# Altium integrated library Linear Technology Power Management Switching Regulator LT1074-LT8705.IntLib: 2252 symbols (part 78 of 148)
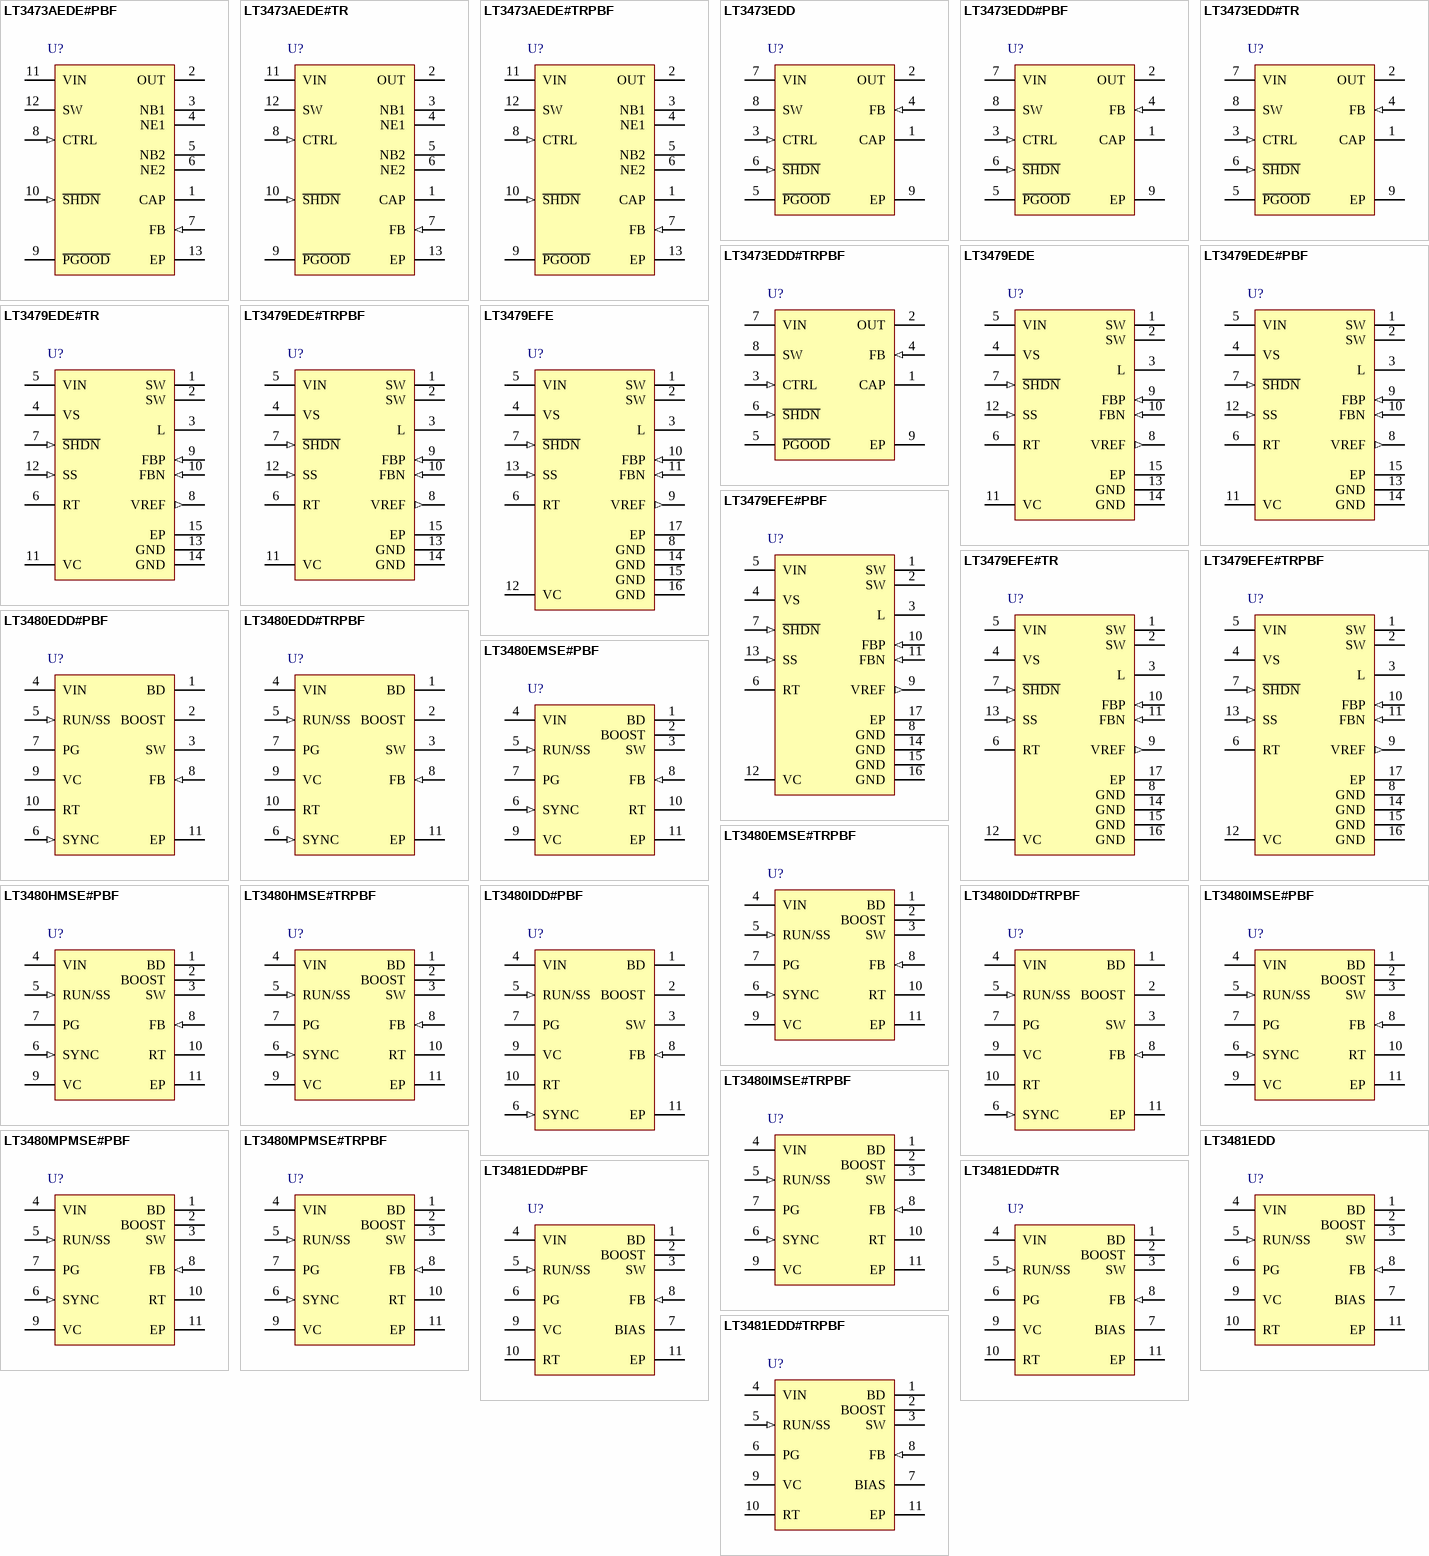
[diagram p148: symbols LT3473AEDE#PBF to LT3481EDD#TRPBF]

## LT3473EDD#TR
designator U?
Micropower 1 A Boost Converter with Schottky and Output Disconnect Max, 8-pin SON (DD-8), -40 to 85 degC, Tape and Reel; Manufacturer: Linear Technology; PartNumber: LT3473EDD#TR; Number of Outputs: 1; PackageVersion: Jun-10; PackageReference: DD-8; PackageDescription: 8-Pin Plastic DFN, Body 3 x 3 mm, Pitch 0.5 mm; Packing: Tape and Reel; RoHS: FALSE; Mounting Technology: Surface Mount; Code_JEDEC: MO-229; ComponentLink1Description: Manufacturer URL; ComponentLink1URL: http://www.linear.com/; ComponentLink2Description: Datasheet; ComponentLink2URL: http://cds.linear.com/docs/en/datasheet/3473f.pdf; ComponentLink3Description: Package Specification; ComponentLink3URL: http://cds.linear.com/docs/en/packaging/DFN_8_05-08-1698.pdf
footprint LT-DD-8_V (SON, 8-Leads, Body 3x3mm, Pitch 0.5mm, Thermal Pad 1.65x2.38 mm)
pins: 1 CAP "Internal Output Voltage. This pin is the Schottky cathode and disconnect PNP emitter. Connect output capacitor here.", 2 OUT (power) "Output of Disconnect Circuit. Bypass this pin with capacitor to ground.", 3 CTRL (in) "External Reference Pin. This pin sets the FB voltage externally between 0V and 1.25V. Tie this pin 1.5V or higher to use the internal 1.25V reference.", 4 FB (in) "Feedback Pin. Pin voltage is regulated to 1.25V if internal reference is used or to the CTRL pin voltage if the CTRL pin voltage is between 0V and 1.25V. Connect the feedback resistor divider to this pin.", 5 ~{PGOOD} (oc) "Power Good Output. Open collector logic output that starts to sink current when FB reaches within 100mV of the reference voltage.", 6 ~{SHDN} (in) "Shutdown Pin. Connect to 1.4V or higher to enable device; 0.2V or less to disable device. Also functions as soft-start. Use RC filter as shown in Figure 4.", 7 VIN (power) "Input Supply Pin. Must be locally bypassed with a X5R or X7R type ceramic capacitor.", 8 SW "Switch Pin. Connect inductor here. Minimize the metal trace area connected to the pin to minimize EMI.", 9 EP (power) "Ground. Solder directly to PCB ground plane through multiple vias under the package for optimum thermal performance."

## LT3473EDD#TRPBF
designator U?
Micropower 1 A Boost Converter with Schottky and Output Disconnect Max, 8-pin SON (DD-8), -40 to 85 degC, Pb-Free, Tape and Reel; Manufacturer: Linear Technology; PartNumber: LT3473EDD#TRPBF; Number of Outputs: 1; PackageVersion: Jun-10; PackageReference: DD-8; PackageDescription: 8-Pin Plastic DFN, Body 3 x 3 mm, Pitch 0.5 mm; Supplier 1: Digi-Key; Supplier Part Number 1: LT3473EDD#TRPBF-ND; Supplier 2: Newark; Supplier Part Number 2: 57M8284; Packing: Tape and Reel; RoHS: TRUE; Mounting Technology: Surface Mount; Code_JEDEC: MO-229; ComponentLink1Description: Manufacturer URL; ComponentLink1URL: http://www.linear.com/; ComponentLink2Description: Datasheet; ComponentLink2URL: http://cds.linear.com/docs/en/datasheet/3473f.pdf; ComponentLink3Description: Package Specification; ComponentLink3URL: http://cds.linear.com/docs/en/packaging/DFN_8_05-08-1698.pdf
footprint LT-DD-8_V (SON, 8-Leads, Body 3x3mm, Pitch 0.5mm, Thermal Pad 1.65x2.38 mm)
pins: 1 CAP "Internal Output Voltage. This pin is the Schottky cathode and disconnect PNP emitter. Connect output capacitor here.", 2 OUT (power) "Output of Disconnect Circuit. Bypass this pin with capacitor to ground.", 3 CTRL (in) "External Reference Pin. This pin sets the FB voltage externally between 0V and 1.25V. Tie this pin 1.5V or higher to use the internal 1.25V reference.", 4 FB (in) "Feedback Pin. Pin voltage is regulated to 1.25V if internal reference is used or to the CTRL pin voltage if the CTRL pin voltage is between 0V and 1.25V. Connect the feedback resistor divider to this pin.", 5 ~{PGOOD} (oc) "Power Good Output. Open collector logic output that starts to sink current when FB reaches within 100mV of the reference voltage.", 6 ~{SHDN} (in) "Shutdown Pin. Connect to 1.4V or higher to enable device; 0.2V or less to disable device. Also functions as soft-start. Use RC filter as shown in Figure 4.", 7 VIN (power) "Input Supply Pin. Must be locally bypassed with a X5R or X7R type ceramic capacitor.", 8 SW "Switch Pin. Connect inductor here. Minimize the metal trace area connected to the pin to minimize EMI.", 9 EP (power) "Ground. Solder directly to PCB ground plane through multiple vias under the package for optimum thermal performance."

## LT3479EDE
designator U?
3 A, Full Featured DC/DC Converter with Soft-Start and Inrush Current Protection, 14-pin SON (DE-14), -40 to 85 degC; Manufacturer: Linear Technology; PartNumber: LT3479EDE; Number of Outputs: 1; DatasheetVersion: Rev. C; PackageVersion: Rev. B, 06/2010; PackageReference: DE-14; PackageDescription: 14-Pin Plastic DFN, Body 4 x 3 mm, Pitch 0.5 mm; Supplier 1: Newark; Supplier Part Number 1: 57M8333; RoHS: FALSE; Mounting Technology: Surface Mount; Code_JEDEC: MO-229; ComponentLink1Description: Manufacturer URL; ComponentLink1URL: http://www.linear.com/; ComponentLink2Description: Datasheet; ComponentLink2URL: http://cds.linear.com/docs/en/datasheet/3479fc.pdf; ComponentLink3Description: Package Specification; ComponentLink3URL: http://www.linear.com/docs/en/packaging/DFN_14_05-08-1708.pdf
footprint LT-DE-14_V (SON, 14-Leads, Body 4x3mm, Pitch 0.5mm, Thermal Pad 3.3x1.7mm)
pins: 1 SW (power) "Switch Pins. Collector of the internal NPN power switch. Connect the inductor and diode here and minimize the metal trace area connected to this pin to minimize electromagnetic interference.", 2 SW (power) "Switch Pins. Collector of the internal NPN power switch. Connect the inductor and diode here and minimize the metal trace area connected to this pin to minimize electromagnetic interference.", 3 L (power) "Inductor Pin. Connect the inductor to this pin.", 4 VS (power) "Inductor Supply. Must be locally bypassed. Powers the switch and the inductor. In case only one supply voltage is available, tie VIN and VS together.", 5 VIN (power) "Input Supply. Must be locally bypassed. Powers the internal control circuitry.", 6 RT "Timing Resistor Pin. Adjusts the switching frequency. Do not leave this pin open. See Table 4 for RT values and switching frequencies.", 7 ~{SHDN} (in) "Shutdown. Tie to 1.5V or greater to enable the device. Tie below 0.3V to turn off the device.", 8 VREF (out) "Bandgap Voltage Reference. Internally set to 1.235V. Connect this pin to FBP if generating a positive output, or to an external resistor divider if generating a negative voltage. This pin can provide up to 100uA of current (See Datasheet)", 9 FBP (in) "The Noninverting Input to the Error Amplifier. Connect resistive divider tap here for negative output voltage.", 10 FBN (in) "The Inverting Input to the Error Amplifier. Connect resistive divider tap here for positive output voltage.", 11 VC "Compensation Pin for Error Amplifier. Connect a series RC from this pin to GND. Typical values are 10kohm and 2.2nF.", 12 SS (in) "Soft-Start. Place a soft-start capacitor here. Leave floating if not in use.", 13 GND (power) "Ground. Tie directly to local ground plane.", 14 GND (power) "Ground. Tie directly to local ground plane.", 15 EP (power) "Power Ground. Must be connected to electrical PCB ground."

## LT3479EDE#PBF
designator U?
3 A, Full Featured DC/DC Converter with Soft-Start and Inrush Current Protection, 14-pin SON (DE-14), -40 to 85 degC, Pb-Free; Manufacturer: Linear Technology; PartNumber: LT3479EDE#PBF; Number of Outputs: 1; DatasheetVersion: Rev. C; PackageVersion: Rev. B, 06/2010; PackageReference: DE-14; PackageDescription: 14-Pin Plastic DFN, Body 4 x 3 mm, Pitch 0.5 mm; Supplier 1: Digi-Key; Supplier Part Number 1: LT3479EDE#PBF-ND; Supplier 2: Farnell; Supplier Part Number 2: 2294908; Supplier 3: Newark; Supplier Part Number 3: 57M8334; RoHS: TRUE; Mounting Technology: Surface Mount; Code_JEDEC: MO-229; ComponentLink1Description: Manufacturer URL; ComponentLink1URL: http://www.linear.com/; ComponentLink2Description: Datasheet; ComponentLink2URL: http://cds.linear.com/docs/en/datasheet/3479fc.pdf; ComponentLink3Description: Package Specification; ComponentLink3URL: http://www.linear.com/docs/en/packaging/DFN_14_05-08-1708.pdf
footprint LT-DE-14_V (SON, 14-Leads, Body 4x3mm, Pitch 0.5mm, Thermal Pad 3.3x1.7mm)
pins: 1 SW (power) "Switch Pins. Collector of the internal NPN power switch. Connect the inductor and diode here and minimize the metal trace area connected to this pin to minimize electromagnetic interference.", 2 SW (power) "Switch Pins. Collector of the internal NPN power switch. Connect the inductor and diode here and minimize the metal trace area connected to this pin to minimize electromagnetic interference.", 3 L (power) "Inductor Pin. Connect the inductor to this pin.", 4 VS (power) "Inductor Supply. Must be locally bypassed. Powers the switch and the inductor. In case only one supply voltage is available, tie VIN and VS together.", 5 VIN (power) "Input Supply. Must be locally bypassed. Powers the internal control circuitry.", 6 RT "Timing Resistor Pin. Adjusts the switching frequency. Do not leave this pin open. See Table 4 for RT values and switching frequencies.", 7 ~{SHDN} (in) "Shutdown. Tie to 1.5V or greater to enable the device. Tie below 0.3V to turn off the device.", 8 VREF (out) "Bandgap Voltage Reference. Internally set to 1.235V. Connect this pin to FBP if generating a positive output, or to an external resistor divider if generating a negative voltage. This pin can provide up to 100uA of current (See Datasheet)", 9 FBP (in) "The Noninverting Input to the Error Amplifier. Connect resistive divider tap here for negative output voltage.", 10 FBN (in) "The Inverting Input to the Error Amplifier. Connect resistive divider tap here for positive output voltage.", 11 VC "Compensation Pin for Error Amplifier. Connect a series RC from this pin to GND. Typical values are 10kohm and 2.2nF.", 12 SS (in) "Soft-Start. Place a soft-start capacitor here. Leave floating if not in use.", 13 GND (power) "Ground. Tie directly to local ground plane.", 14 GND (power) "Ground. Tie directly to local ground plane.", 15 EP (power) "Power Ground. Must be connected to electrical PCB ground."

## LT3479EDE#TR
designator U?
3 A, Full Featured DC/DC Converter with Soft-Start and Inrush Current Protection, 14-pin SON (DE-14), -40 to 85 degC, Tape and Reel; Manufacturer: Linear Technology; PartNumber: LT3479EDE#TR; Number of Outputs: 1; DatasheetVersion: Rev. C; PackageVersion: Rev. B, 06/2010; PackageReference: DE-14; PackageDescription: 14-Pin Plastic DFN, Body 4 x 3 mm, Pitch 0.5 mm; Packing: Tape and Reel; RoHS: FALSE; Mounting Technology: Surface Mount; Code_JEDEC: MO-229; ComponentLink1Description: Manufacturer URL; ComponentLink1URL: http://www.linear.com/; ComponentLink2Description: Datasheet; ComponentLink2URL: http://cds.linear.com/docs/en/datasheet/3479fc.pdf; ComponentLink3Description: Package Specification; ComponentLink3URL: http://www.linear.com/docs/en/packaging/DFN_14_05-08-1708.pdf
footprint LT-DE-14_V (SON, 14-Leads, Body 4x3mm, Pitch 0.5mm, Thermal Pad 3.3x1.7mm)
pins: 1 SW (power) "Switch Pins. Collector of the internal NPN power switch. Connect the inductor and diode here and minimize the metal trace area connected to this pin to minimize electromagnetic interference.", 2 SW (power) "Switch Pins. Collector of the internal NPN power switch. Connect the inductor and diode here and minimize the metal trace area connected to this pin to minimize electromagnetic interference.", 3 L (power) "Inductor Pin. Connect the inductor to this pin.", 4 VS (power) "Inductor Supply. Must be locally bypassed. Powers the switch and the inductor. In case only one supply voltage is available, tie VIN and VS together.", 5 VIN (power) "Input Supply. Must be locally bypassed. Powers the internal control circuitry.", 6 RT "Timing Resistor Pin. Adjusts the switching frequency. Do not leave this pin open. See Table 4 for RT values and switching frequencies.", 7 ~{SHDN} (in) "Shutdown. Tie to 1.5V or greater to enable the device. Tie below 0.3V to turn off the device.", 8 VREF (out) "Bandgap Voltage Reference. Internally set to 1.235V. Connect this pin to FBP if generating a positive output, or to an external resistor divider if generating a negative voltage. This pin can provide up to 100uA of current (See Datasheet)", 9 FBP (in) "The Noninverting Input to the Error Amplifier. Connect resistive divider tap here for negative output voltage.", 10 FBN (in) "The Inverting Input to the Error Amplifier. Connect resistive divider tap here for positive output voltage.", 11 VC "Compensation Pin for Error Amplifier. Connect a series RC from this pin to GND. Typical values are 10kohm and 2.2nF.", 12 SS (in) "Soft-Start. Place a soft-start capacitor here. Leave floating if not in use.", 13 GND (power) "Ground. Tie directly to local ground plane.", 14 GND (power) "Ground. Tie directly to local ground plane.", 15 EP (power) "Power Ground. Must be connected to electrical PCB ground."

## LT3479EDE#TRPBF
designator U?
3 A, Full Featured DC/DC Converter with Soft-Start and Inrush Current Protection, 14-pin SON (DE-14), -40 to 85 degC, Pb-Free, Tape and Reel; Manufacturer: Linear Technology; PartNumber: LT3479EDE#TRPBF; Number of Outputs: 1; DatasheetVersion: Rev. C; PackageVersion: Rev. B, 06/2010; PackageReference: DE-14; PackageDescription: 14-Pin Plastic DFN, Body 4 x 3 mm, Pitch 0.5 mm; Supplier 1: Digi-Key; Supplier Part Number 1: LT3479EDE#TRPBF-ND; Supplier 2: Newark; Supplier Part Number 2: 57M8336; Packing: Tape and Reel; RoHS: TRUE; Mounting Technology: Surface Mount; Code_JEDEC: MO-229; ComponentLink1Description: Manufacturer URL; ComponentLink1URL: http://www.linear.com/; ComponentLink2Description: Datasheet; ComponentLink2URL: http://cds.linear.com/docs/en/datasheet/3479fc.pdf; ComponentLink3Description: Package Specification; ComponentLink3URL: http://www.linear.com/docs/en/packaging/DFN_14_05-08-1708.pdf
footprint LT-DE-14_V (SON, 14-Leads, Body 4x3mm, Pitch 0.5mm, Thermal Pad 3.3x1.7mm)
pins: 1 SW (power) "Switch Pins. Collector of the internal NPN power switch. Connect the inductor and diode here and minimize the metal trace area connected to this pin to minimize electromagnetic interference.", 2 SW (power) "Switch Pins. Collector of the internal NPN power switch. Connect the inductor and diode here and minimize the metal trace area connected to this pin to minimize electromagnetic interference.", 3 L (power) "Inductor Pin. Connect the inductor to this pin.", 4 VS (power) "Inductor Supply. Must be locally bypassed. Powers the switch and the inductor. In case only one supply voltage is available, tie VIN and VS together.", 5 VIN (power) "Input Supply. Must be locally bypassed. Powers the internal control circuitry.", 6 RT "Timing Resistor Pin. Adjusts the switching frequency. Do not leave this pin open. See Table 4 for RT values and switching frequencies.", 7 ~{SHDN} (in) "Shutdown. Tie to 1.5V or greater to enable the device. Tie below 0.3V to turn off the device.", 8 VREF (out) "Bandgap Voltage Reference. Internally set to 1.235V. Connect this pin to FBP if generating a positive output, or to an external resistor divider if generating a negative voltage. This pin can provide up to 100uA of current (See Datasheet)", 9 FBP (in) "The Noninverting Input to the Error Amplifier. Connect resistive divider tap here for negative output voltage.", 10 FBN (in) "The Inverting Input to the Error Amplifier. Connect resistive divider tap here for positive output voltage.", 11 VC "Compensation Pin for Error Amplifier. Connect a series RC from this pin to GND. Typical values are 10kohm and 2.2nF.", 12 SS (in) "Soft-Start. Place a soft-start capacitor here. Leave floating if not in use.", 13 GND (power) "Ground. Tie directly to local ground plane.", 14 GND (power) "Ground. Tie directly to local ground plane.", 15 EP (power) "Power Ground. Must be connected to electrical PCB ground."

## LT3479EFE
designator U?
3 A, Full Featured DC/DC Converter with Soft-Start and Inrush Current Protection, 16-pin SOP (FE-16-EPV-BC), -40 to 85 degC; Manufacturer: Linear Technology; PartNumber: LT3479EFE; Number of Outputs: 1; DatasheetVersion: Rev. C; PackageVersion: Rev. J, 11/2012; PackageReference: FE-16; PackageDescription: 16-Pin Plastic TSSOP, Body 5 x 4.4 mm, Pitch 0.65 mm; Supplier 1: Newark; Supplier Part Number 1: 57M8337; RoHS: FALSE; Mounting Technology: Surface Mount; ComponentLink1Description: Manufacturer URL; ComponentLink1URL: http://www.linear.com/; ComponentLink2Description: Datasheet; ComponentLink2URL: http://cds.linear.com/docs/en/datasheet/3479fc.pdf; ComponentLink3Description: Package Specification; ComponentLink3URL: http://cds.linear.com/docs/en/packaging/05081663__J_FE16(BC).pdf
footprint LT-FE-16-EPV-BC_N (SOP, 16-Leads, Body 5.1x4.5mm, Pitch 0.65mm, Thermal Pad 3.58x2.94mm, IPC Medium Density)
footprint LT-FE-16-EPV-BC_L (SOP, 16-Leads, Body 5.1x4.5mm, Pitch 0.65mm, Thermal Pad 3.58x2.94mm, IPC High Density)
footprint LT-FE-16-EPV-BC_M (SOP, 16-Leads, Body 5.1x4.5mm, Pitch 0.65mm, Thermal Pad 3.58x2.94mm, IPC Low Density)
pins: 1 SW (power) "Switch Pins. Collector of the internal NPN power switch. Connect the inductor and diode here and minimize the metal trace area connected to this pin to minimize electromagnetic interference.", 2 SW (power) "Switch Pins. Collector of the internal NPN power switch. Connect the inductor and diode here and minimize the metal trace area connected to this pin to minimize electromagnetic interference.", 3 L (power) "Inductor Pin. Connect the inductor to this pin.", 4 VS (power) "Inductor Supply. Must be locally bypassed. Powers the switch and the inductor. In case only one supply voltage is available, tie VIN and VS together.", 5 VIN (power) "Input Supply. Must be locally bypassed. Powers the internal control circuitry.", 6 RT "Timing Resistor Pin. Adjusts the switching frequency. Do not leave this pin open. See Table 4 for RT values and switching frequencies.", 7 ~{SHDN} (in) "Shutdown. Tie to 1.5V or greater to enable the device. Tie below 0.3V to turn off the device.", 8 GND (power) "Ground. Tie directly to local ground plane.", 9 VREF (out) "Bandgap Voltage Reference. Internally set to 1.235V. Connect this pin to FBP if generating a positive output, or to an external resistor divider if generating a negative voltage. This pin can provide up to 100uA of current (See Datasheet)", 10 FBP (in) "The Noninverting Input to the Error Amplifier. Connect resistive divider tap here for negative output voltage.", 11 FBN (in) "The Inverting Input to the Error Amplifier. Connect resistive divider tap here for positive output voltage.", 12 VC "Compensation Pin for Error Amplifier. Connect a series RC from this pin to GND. Typical values are 10kohm and 2.2nF.", 13 SS (in) "Soft-Start. Place a soft-start capacitor here. Leave floating if not in use.", 14 GND (power) "Ground. Tie directly to local ground plane.", 15 GND (power) "Ground. Tie directly to local ground plane.", 16 GND (power) "Ground. Tie directly to local ground plane.", 17 EP (power) "Power Ground. Must be connected to electrical PCB ground."

## LT3479EFE#PBF
designator U?
3 A, Full Featured DC/DC Converter with Soft-Start and Inrush Current Protection, 16-pin SOP (FE-16-EPV-BC), -40 to 85 degC, Pb-Free; Manufacturer: Linear Technology; PartNumber: LT3479EFE#PBF; Number of Outputs: 1; DatasheetVersion: Rev. C; PackageVersion: Rev. J, 11/2012; PackageReference: FE-16; PackageDescription: 16-Pin Plastic TSSOP, Body 5 x 4.4 mm, Pitch 0.65 mm; Supplier 1: Digi-Key; Supplier Part Number 1: LT3479EFE#PBF-ND; Supplier 2: Farnell; Supplier Part Number 2: 1273818; Supplier 3: Newark; Supplier Part Number 3: 57M8338; RoHS: TRUE; Mounting Technology: Surface Mount; ComponentLink1Description: Manufacturer URL; ComponentLink1URL: http://www.linear.com/; ComponentLink2Description: Datasheet; ComponentLink2URL: http://cds.linear.com/docs/en/datasheet/3479fc.pdf; ComponentLink3Description: Package Specification; ComponentLink3URL: http://cds.linear.com/docs/en/packaging/05081663__J_FE16(BC).pdf
footprint LT-FE-16-EPV-BC_N (SOP, 16-Leads, Body 5.1x4.5mm, Pitch 0.65mm, Thermal Pad 3.58x2.94mm, IPC Medium Density)
footprint LT-FE-16-EPV-BC_L (SOP, 16-Leads, Body 5.1x4.5mm, Pitch 0.65mm, Thermal Pad 3.58x2.94mm, IPC High Density)
footprint LT-FE-16-EPV-BC_M (SOP, 16-Leads, Body 5.1x4.5mm, Pitch 0.65mm, Thermal Pad 3.58x2.94mm, IPC Low Density)
pins: 1 SW (power) "Switch Pins. Collector of the internal NPN power switch. Connect the inductor and diode here and minimize the metal trace area connected to this pin to minimize electromagnetic interference.", 2 SW (power) "Switch Pins. Collector of the internal NPN power switch. Connect the inductor and diode here and minimize the metal trace area connected to this pin to minimize electromagnetic interference.", 3 L (power) "Inductor Pin. Connect the inductor to this pin.", 4 VS (power) "Inductor Supply. Must be locally bypassed. Powers the switch and the inductor. In case only one supply voltage is available, tie VIN and VS together.", 5 VIN (power) "Input Supply. Must be locally bypassed. Powers the internal control circuitry.", 6 RT "Timing Resistor Pin. Adjusts the switching frequency. Do not leave this pin open. See Table 4 for RT values and switching frequencies.", 7 ~{SHDN} (in) "Shutdown. Tie to 1.5V or greater to enable the device. Tie below 0.3V to turn off the device.", 8 GND (power) "Ground. Tie directly to local ground plane.", 9 VREF (out) "Bandgap Voltage Reference. Internally set to 1.235V. Connect this pin to FBP if generating a positive output, or to an external resistor divider if generating a negative voltage. This pin can provide up to 100uA of current (See Datasheet)", 10 FBP (in) "The Noninverting Input to the Error Amplifier. Connect resistive divider tap here for negative output voltage.", 11 FBN (in) "The Inverting Input to the Error Amplifier. Connect resistive divider tap here for positive output voltage.", 12 VC "Compensation Pin for Error Amplifier. Connect a series RC from this pin to GND. Typical values are 10kohm and 2.2nF.", 13 SS (in) "Soft-Start. Place a soft-start capacitor here. Leave floating if not in use.", 14 GND (power) "Ground. Tie directly to local ground plane.", 15 GND (power) "Ground. Tie directly to local ground plane.", 16 GND (power) "Ground. Tie directly to local ground plane.", 17 EP (power) "Power Ground. Must be connected to electrical PCB ground."

## LT3479EFE#TR
designator U?
3 A, Full Featured DC/DC Converter with Soft-Start and Inrush Current Protection, 16-pin SOP (FE-16-EPV-BC), -40 to 85 degC, Tape and Reel; Manufacturer: Linear Technology; PartNumber: LT3479EFE#TR; Number of Outputs: 1; DatasheetVersion: Rev. C; PackageVersion: Rev. J, 11/2012; PackageReference: FE-16; PackageDescription: 16-Pin Plastic TSSOP, Body 5 x 4.4 mm, Pitch 0.65 mm; Packing: Tape and Reel; RoHS: FALSE; Mounting Technology: Surface Mount; ComponentLink1Description: Manufacturer URL; ComponentLink1URL: http://www.linear.com/; ComponentLink2Description: Datasheet; ComponentLink2URL: http://cds.linear.com/docs/en/datasheet/3479fc.pdf; ComponentLink3Description: Package Specification; ComponentLink3URL: http://cds.linear.com/docs/en/packaging/05081663__J_FE16(BC).pdf
footprint LT-FE-16-EPV-BC_N (SOP, 16-Leads, Body 5.1x4.5mm, Pitch 0.65mm, Thermal Pad 3.58x2.94mm, IPC Medium Density)
footprint LT-FE-16-EPV-BC_L (SOP, 16-Leads, Body 5.1x4.5mm, Pitch 0.65mm, Thermal Pad 3.58x2.94mm, IPC High Density)
footprint LT-FE-16-EPV-BC_M (SOP, 16-Leads, Body 5.1x4.5mm, Pitch 0.65mm, Thermal Pad 3.58x2.94mm, IPC Low Density)
pins: 1 SW (power) "Switch Pins. Collector of the internal NPN power switch. Connect the inductor and diode here and minimize the metal trace area connected to this pin to minimize electromagnetic interference.", 2 SW (power) "Switch Pins. Collector of the internal NPN power switch. Connect the inductor and diode here and minimize the metal trace area connected to this pin to minimize electromagnetic interference.", 3 L (power) "Inductor Pin. Connect the inductor to this pin.", 4 VS (power) "Inductor Supply. Must be locally bypassed. Powers the switch and the inductor. In case only one supply voltage is available, tie VIN and VS together.", 5 VIN (power) "Input Supply. Must be locally bypassed. Powers the internal control circuitry.", 6 RT "Timing Resistor Pin. Adjusts the switching frequency. Do not leave this pin open. See Table 4 for RT values and switching frequencies.", 7 ~{SHDN} (in) "Shutdown. Tie to 1.5V or greater to enable the device. Tie below 0.3V to turn off the device.", 8 GND (power) "Ground. Tie directly to local ground plane.", 9 VREF (out) "Bandgap Voltage Reference. Internally set to 1.235V. Connect this pin to FBP if generating a positive output, or to an external resistor divider if generating a negative voltage. This pin can provide up to 100uA of current (See Datasheet)", 10 FBP (in) "The Noninverting Input to the Error Amplifier. Connect resistive divider tap here for negative output voltage.", 11 FBN (in) "The Inverting Input to the Error Amplifier. Connect resistive divider tap here for positive output voltage.", 12 VC "Compensation Pin for Error Amplifier. Connect a series RC from this pin to GND. Typical values are 10kohm and 2.2nF.", 13 SS (in) "Soft-Start. Place a soft-start capacitor here. Leave floating if not in use.", 14 GND (power) "Ground. Tie directly to local ground plane.", 15 GND (power) "Ground. Tie directly to local ground plane.", 16 GND (power) "Ground. Tie directly to local ground plane.", 17 EP (power) "Power Ground. Must be connected to electrical PCB ground."

## LT3479EFE#TRPBF
designator U?
3 A, Full Featured DC/DC Converter with Soft-Start and Inrush Current Protection, 16-pin SOP (FE-16-EPV-BC), -40 to 85 degC, Pb-Free, Tape and Reel; Manufacturer: Linear Technology; PartNumber: LT3479EFE#TRPBF; Number of Outputs: 1; DatasheetVersion: Rev. C; PackageVersion: Rev. J, 11/2012; PackageReference: FE-16; PackageDescription: 16-Pin Plastic TSSOP, Body 5 x 4.4 mm, Pitch 0.65 mm; Supplier 1: Digi-Key; Supplier Part Number 1: LT3479EFE#TRPBF-ND; Supplier 2: Newark; Supplier Part Number 2: 57M8340; Packing: Tape and Reel; RoHS: TRUE; Mounting Technology: Surface Mount; ComponentLink1Description: Manufacturer URL; ComponentLink1URL: http://www.linear.com/; ComponentLink2Description: Datasheet; ComponentLink2URL: http://cds.linear.com/docs/en/datasheet/3479fc.pdf; ComponentLink3Description: Package Specification; ComponentLink3URL: http://cds.linear.com/docs/en/packaging/05081663__J_FE16(BC).pdf
footprint LT-FE-16-EPV-BC_N (SOP, 16-Leads, Body 5.1x4.5mm, Pitch 0.65mm, Thermal Pad 3.58x2.94mm, IPC Medium Density)
footprint LT-FE-16-EPV-BC_L (SOP, 16-Leads, Body 5.1x4.5mm, Pitch 0.65mm, Thermal Pad 3.58x2.94mm, IPC High Density)
footprint LT-FE-16-EPV-BC_M (SOP, 16-Leads, Body 5.1x4.5mm, Pitch 0.65mm, Thermal Pad 3.58x2.94mm, IPC Low Density)
pins: 1 SW (power) "Switch Pins. Collector of the internal NPN power switch. Connect the inductor and diode here and minimize the metal trace area connected to this pin to minimize electromagnetic interference.", 2 SW (power) "Switch Pins. Collector of the internal NPN power switch. Connect the inductor and diode here and minimize the metal trace area connected to this pin to minimize electromagnetic interference.", 3 L (power) "Inductor Pin. Connect the inductor to this pin.", 4 VS (power) "Inductor Supply. Must be locally bypassed. Powers the switch and the inductor. In case only one supply voltage is available, tie VIN and VS together.", 5 VIN (power) "Input Supply. Must be locally bypassed. Powers the internal control circuitry.", 6 RT "Timing Resistor Pin. Adjusts the switching frequency. Do not leave this pin open. See Table 4 for RT values and switching frequencies.", 7 ~{SHDN} (in) "Shutdown. Tie to 1.5V or greater to enable the device. Tie below 0.3V to turn off the device.", 8 GND (power) "Ground. Tie directly to local ground plane.", 9 VREF (out) "Bandgap Voltage Reference. Internally set to 1.235V. Connect this pin to FBP if generating a positive output, or to an external resistor divider if generating a negative voltage. This pin can provide up to 100uA of current (See Datasheet)", 10 FBP (in) "The Noninverting Input to the Error Amplifier. Connect resistive divider tap here for negative output voltage.", 11 FBN (in) "The Inverting Input to the Error Amplifier. Connect resistive divider tap here for positive output voltage.", 12 VC "Compensation Pin for Error Amplifier. Connect a series RC from this pin to GND. Typical values are 10kohm and 2.2nF.", 13 SS (in) "Soft-Start. Place a soft-start capacitor here. Leave floating if not in use.", 14 GND (power) "Ground. Tie directly to local ground plane.", 15 GND (power) "Ground. Tie directly to local ground plane.", 16 GND (power) "Ground. Tie directly to local ground plane.", 17 EP (power) "Power Ground. Must be connected to electrical PCB ground."

## LT3480EDD#PBF
designator U?
2 A, 2.4 MHz Step-Down Switching Regulator with 70 uA Quiescent Current, 10-pin SON (DD-10), -40 to 85 degC, Pb-Free; Manufacturer: Linear Technology; PartNumber: LT3480EDD#PBF; Number of Outputs: 1; Over Voltage Protection(V): 60; PackageVersion: Rev. C, 06/2010; PackageReference: DD-10; PackageDescription: 10-Pin Plastic DFN, Body 3 x 3 mm, Pitch 0.5 mm; Supplier 1: Digi-Key; Supplier Part Number 1: LT3480EDD#PBF-ND; Supplier 2: Farnell; Supplier Part Number 2: 1663561; Supplier 3: Newark; Supplier Part Number 3: 57M8341; RoHS: TRUE; Mounting Technology: Surface Mount; Code_JEDEC: MO-229; ComponentLink1Description: Manufacturer URL; ComponentLink1URL: http://www.linear.com/; ComponentLink2Description: Datasheet; ComponentLink2URL: http://cds.linear.com/docs/en/datasheet/3480fe.pdf; ComponentLink3Description: Package Specification; ComponentLink3URL: http://cds.linear.com/docs/en/packaging/DFN_10_05-08-1699.pdf
footprint LT-DD-10_V (SON, 10-Leads, Body 3x3mm, Pitch 0.5mm, Thermal Pad 2.38x1.65mm)
pins: 1 BD (power) "This pin connects to the anode of the boost Schottky diode. BD also supplies current to the internal regulator.", 2 BOOST "This pin is used to provide a drive voltage, higher than the input voltage, to the internal bipolar NPN power switch.", 3 SW (power) "The SW pin is the output of the internal power switch. Connect this pin to the inductor, catch diode and boost capacitor.", 4 VIN (power) "The VIN pin supplies current to internal regulator and to the internal power switch. This pin must be locally bypassed.", 5 RUN/SS (in) "If the shutdown feature is not used, tie this pin to the VIN pin. RUN/SS also provides a soft-start function; see the Applications Information section.", 6 SYNC (in) "This is the external clock synchronization input. Ground this pin for low ripple Burst Mode operation at low output loads. Tie to a clock source for synchronization. Clock edges should have rise and fall times faster than (See Datasheet)", 7 PG (oc) "The PG pin is the open collector output of an internal comparator. PG remains low until the FB pin is within 9% of the final regulation voltage. PG output is valid when VIN is above 3.6V and RUN/SS is high.", 8 FB (in) "Connect the feedback resistor divider tap to this pin.", 9 VC "The VC pin is the output of the internal error amplifier. The voltage on this pin controls the peak switch current. Tie an RC network from this pin to ground to compensate the control loop.", 10 RT "Oscillator Resistor Input. Connecting a resistor to ground from this pin sets the switching frequency.", 11 EP (power) "Ground. The Exposed Pad must be soldered to PCB."

## LT3480EDD#TRPBF
designator U?
2 A, 2.4 MHz Step-Down Switching Regulator with 70 uA Quiescent Current, 10-pin SON (DD-10), -40 to 85 degC, Pb-Free, Tape and Reel; Manufacturer: Linear Technology; PartNumber: LT3480EDD#TRPBF; Number of Outputs: 1; Over Voltage Protection(V): 60; PackageVersion: Rev. C, 06/2010; PackageReference: DD-10; PackageDescription: 10-Pin Plastic DFN, Body 3 x 3 mm, Pitch 0.5 mm; Supplier 1: Digi-Key; Supplier Part Number 1: LT3480EDD#TRPBF-ND; Supplier 2: Newark; Supplier Part Number 2: 57M8342; Packing: Tape and Reel; RoHS: TRUE; Mounting Technology: Surface Mount; Code_JEDEC: MO-229; ComponentLink1Description: Manufacturer URL; ComponentLink1URL: http://www.linear.com/; ComponentLink2Description: Datasheet; ComponentLink2URL: http://cds.linear.com/docs/en/datasheet/3480fe.pdf; ComponentLink3Description: Package Specification; ComponentLink3URL: http://cds.linear.com/docs/en/packaging/DFN_10_05-08-1699.pdf
footprint LT-DD-10_V (SON, 10-Leads, Body 3x3mm, Pitch 0.5mm, Thermal Pad 2.38x1.65mm)
pins: 1 BD (power) "This pin connects to the anode of the boost Schottky diode. BD also supplies current to the internal regulator.", 2 BOOST "This pin is used to provide a drive voltage, higher than the input voltage, to the internal bipolar NPN power switch.", 3 SW (power) "The SW pin is the output of the internal power switch. Connect this pin to the inductor, catch diode and boost capacitor.", 4 VIN (power) "The VIN pin supplies current to internal regulator and to the internal power switch. This pin must be locally bypassed.", 5 RUN/SS (in) "If the shutdown feature is not used, tie this pin to the VIN pin. RUN/SS also provides a soft-start function; see the Applications Information section.", 6 SYNC (in) "This is the external clock synchronization input. Ground this pin for low ripple Burst Mode operation at low output loads. Tie to a clock source for synchronization. Clock edges should have rise and fall times faster than (See Datasheet)", 7 PG (oc) "The PG pin is the open collector output of an internal comparator. PG remains low until the FB pin is within 9% of the final regulation voltage. PG output is valid when VIN is above 3.6V and RUN/SS is high.", 8 FB (in) "Connect the feedback resistor divider tap to this pin.", 9 VC "The VC pin is the output of the internal error amplifier. The voltage on this pin controls the peak switch current. Tie an RC network from this pin to ground to compensate the control loop.", 10 RT "Oscillator Resistor Input. Connecting a resistor to ground from this pin sets the switching frequency.", 11 EP (power) "Ground. The Exposed Pad must be soldered to PCB."

## LT3480EMSE#PBF
designator U?
2 A, 2.4 MHz Step-Down Switching Regulator with 70 uA Quiescent Current, 10-pin SOP (MSE-10-EDP), -40 to 85 degC, Pb-Free; Manufacturer: Linear Technology; PartNumber: LT3480EMSE#PBF; Number of Outputs: 1; Over Voltage Protection(V): 60; PackageVersion: Rev. I, 05/2013; PackageReference: MSE-10; PackageDescription: 10-Pin Plastic MSOP, Exposed Die Pad, Body 3 x 3 mm, Pitch 0.5 mm; Supplier 1: Digi-Key; Supplier Part Number 1: LT3480EMSE#PBF-ND; Supplier 2: Farnell; Supplier Part Number 2: 1663563; Supplier 3: Newark; Supplier Part Number 3: 57M8343; RoHS: TRUE; Mounting Technology: Surface Mount; ComponentLink1Description: Manufacturer URL; ComponentLink1URL: http://www.linear.com/; ComponentLink2Description: Datasheet; ComponentLink2URL: http://cds.linear.com/docs/en/datasheet/3480fe.pdf; ComponentLink3Description: Package Specification; ComponentLink3URL: http://cds.linear.com/docs/en/packaging/05081664_I_MSE.pdf
footprint LT-MSE-10-EDP_N (SOP, 10-Leads, Body 3.1x3.1mm, Pitch 0.5mm, Thermal Pad 1.88x1.68mm, IPC Medium Density)
footprint LT-MSE-10-EDP_L (SOP, 10-Leads, Body 3.1x3.1mm, Pitch 0.5mm, Thermal Pad 1.88x1.68mm, IPC High Density)
footprint LT-MSE-10-EDP_M (SOP, 10-Leads, Body 3.1x3.1mm, Pitch 0.5mm, Thermal Pad 1.88x1.68mm, IPC Low Density)
pins: 1 BD (power) "This pin connects to the anode of the boost Schottky diode. BD also supplies current to the internal regulator. BD must be locally bypassed when not tied to VOUT with a low ESR capacitor (1uF).", 2 BOOST "This pin is used to provide a drive voltage, higher than the input voltage, to the internal bipolar NPN power switch.", 3 SW (power) "The SW pin is the output of the internal power switch. Connect this pin to the inductor, catch diode and boost capacitor.", 4 VIN (power) "The VIN pin supplies current to the LT3480’s internal regulator and to the internal power switch. This pin must be locally bypassed.", 5 RUN/SS (in) "The RUN/SS pin is used to put the LT3480 in shutdown mode. Tie to ground to shut down the LT3480. Tie to 2.5V or more for normal operation. If the shutdown feature is not used, tie this pin to the VIN pin. RUN/SS also (See Datasheet)", 6 SYNC (in) "This is the external clock synchronization input. Ground this pin for low ripple Burst Mode operation at low output loads. Tie to a clock source for synchronization. Clock edges should have rise and fall times faster than (See Datasheet)", 7 PG (oc) "The PG pin is the open collector output of an internal comparator. PG remains low until the FB pin is within 14% of the final regulation voltage. PG output is valid when VIN is above 3.6V and RUN/SS is high.", 8 FB (in) "The LT3480 regulates the FB pin to 0.790V. Connect the feedback resistor divider tap to this pin.", 9 VC "The VC pin is the output of the internal error amplifier. The voltage on this pin controls the peak switch current. Tie an RC network from this pin to ground to compensate the control loop.", 10 RT "Oscillator Resistor Input. Connecting a resistor to ground from this pin sets the switching frequency.", 11 EP (power) "Ground. The exposed pad must be soldered to PCB."

## LT3480EMSE#TRPBF
designator U?
2 A, 2.4 MHz Step-Down Switching Regulator with 70 uA Quiescent Current, 10-pin SOP (MSE-10-EDP), -40 to 85 degC, Pb-Free, Tape and Reel; Manufacturer: Linear Technology; PartNumber: LT3480EMSE#TRPBF; Number of Outputs: 1; Over Voltage Protection(V): 60; PackageVersion: Rev. I, 05/2013; PackageReference: MSE-10; PackageDescription: 10-Pin Plastic MSOP, Exposed Die Pad, Body 3 x 3 mm, Pitch 0.5 mm; Supplier 1: Digi-Key; Supplier Part Number 1: LT3480EMSE#TRPBF-ND; Supplier 2: Newark; Supplier Part Number 2: 57M8344; Packing: Tape and Reel; RoHS: TRUE; Mounting Technology: Surface Mount; ComponentLink1Description: Manufacturer URL; ComponentLink1URL: http://www.linear.com/; ComponentLink2Description: Datasheet; ComponentLink2URL: http://cds.linear.com/docs/en/datasheet/3480fe.pdf; ComponentLink3Description: Package Specification; ComponentLink3URL: http://cds.linear.com/docs/en/packaging/05081664_I_MSE.pdf
footprint LT-MSE-10-EDP_N (SOP, 10-Leads, Body 3.1x3.1mm, Pitch 0.5mm, Thermal Pad 1.88x1.68mm, IPC Medium Density)
footprint LT-MSE-10-EDP_L (SOP, 10-Leads, Body 3.1x3.1mm, Pitch 0.5mm, Thermal Pad 1.88x1.68mm, IPC High Density)
footprint LT-MSE-10-EDP_M (SOP, 10-Leads, Body 3.1x3.1mm, Pitch 0.5mm, Thermal Pad 1.88x1.68mm, IPC Low Density)
pins: 1 BD (power) "This pin connects to the anode of the boost Schottky diode. BD also supplies current to the internal regulator. BD must be locally bypassed when not tied to VOUT with a low ESR capacitor (1uF).", 2 BOOST "This pin is used to provide a drive voltage, higher than the input voltage, to the internal bipolar NPN power switch.", 3 SW (power) "The SW pin is the output of the internal power switch. Connect this pin to the inductor, catch diode and boost capacitor.", 4 VIN (power) "The VIN pin supplies current to the LT3480’s internal regulator and to the internal power switch. This pin must be locally bypassed.", 5 RUN/SS (in) "The RUN/SS pin is used to put the LT3480 in shutdown mode. Tie to ground to shut down the LT3480. Tie to 2.5V or more for normal operation. If the shutdown feature is not used, tie this pin to the VIN pin. RUN/SS also (See Datasheet)", 6 SYNC (in) "This is the external clock synchronization input. Ground this pin for low ripple Burst Mode operation at low output loads. Tie to a clock source for synchronization. Clock edges should have rise and fall times faster than (See Datasheet)", 7 PG (oc) "The PG pin is the open collector output of an internal comparator. PG remains low until the FB pin is within 14% of the final regulation voltage. PG output is valid when VIN is above 3.6V and RUN/SS is high.", 8 FB (in) "The LT3480 regulates the FB pin to 0.790V. Connect the feedback resistor divider tap to this pin.", 9 VC "The VC pin is the output of the internal error amplifier. The voltage on this pin controls the peak switch current. Tie an RC network from this pin to ground to compensate the control loop.", 10 RT "Oscillator Resistor Input. Connecting a resistor to ground from this pin sets the switching frequency.", 11 EP (power) "Ground. The exposed pad must be soldered to PCB."

## LT3480HMSE#PBF
designator U?
2 A, 2.4 MHz Step-Down Switching Regulator with 70 uA Quiescent Current, 10-pin SOP (MSE-10-EDP), -40 to 150 degC, Pb-Free; Manufacturer: Linear Technology; PartNumber: LT3480HMSE#PBF; Number of Outputs: 1; Over Voltage Protection(V): 60; PackageVersion: Rev. I, 05/2013; PackageReference: MSE-10; PackageDescription: 10-Pin Plastic MSOP, Exposed Die Pad, Body 3 x 3 mm, Pitch 0.5 mm; Supplier 1: Digi-Key; Supplier Part Number 1: LT3480HMSE#PBF-ND; Supplier 2: Farnell; Supplier Part Number 2: 2097877; Supplier 3: Newark; Supplier Part Number 3: 82T4672; RoHS: TRUE; Mounting Technology: Surface Mount; ComponentLink1Description: Manufacturer URL; ComponentLink1URL: http://www.linear.com/; ComponentLink2Description: Datasheet; ComponentLink2URL: http://cds.linear.com/docs/en/datasheet/3480fe.pdf; ComponentLink3Description: Package Specification; ComponentLink3URL: http://cds.linear.com/docs/en/packaging/05081664_I_MSE.pdf
footprint LT-MSE-10-EDP_N (SOP, 10-Leads, Body 3.1x3.1mm, Pitch 0.5mm, Thermal Pad 1.88x1.68mm, IPC Medium Density)
footprint LT-MSE-10-EDP_L (SOP, 10-Leads, Body 3.1x3.1mm, Pitch 0.5mm, Thermal Pad 1.88x1.68mm, IPC High Density)
footprint LT-MSE-10-EDP_M (SOP, 10-Leads, Body 3.1x3.1mm, Pitch 0.5mm, Thermal Pad 1.88x1.68mm, IPC Low Density)
pins: 1 BD (power) "This pin connects to the anode of the boost Schottky diode. BD also supplies current to the internal regulator. BD must be locally bypassed when not tied to VOUT with a low ESR capacitor (1uF).", 2 BOOST "This pin is used to provide a drive voltage, higher than the input voltage, to the internal bipolar NPN power switch.", 3 SW (power) "The SW pin is the output of the internal power switch. Connect this pin to the inductor, catch diode and boost capacitor.", 4 VIN (power) "The VIN pin supplies current to the LT3480’s internal regulator and to the internal power switch. This pin must be locally bypassed.", 5 RUN/SS (in) "The RUN/SS pin is used to put the LT3480 in shutdown mode. Tie to ground to shut down the LT3480. Tie to 2.5V or more for normal operation. If the shutdown feature is not used, tie this pin to the VIN pin. RUN/SS also (See Datasheet)", 6 SYNC (in) "This is the external clock synchronization input. Ground this pin for low ripple Burst Mode operation at low output loads. Tie to a clock source for synchronization. Clock edges should have rise and fall times faster than (See Datasheet)", 7 PG (oc) "The PG pin is the open collector output of an internal comparator. PG remains low until the FB pin is within 14% of the final regulation voltage. PG output is valid when VIN is above 3.6V and RUN/SS is high.", 8 FB (in) "The LT3480 regulates the FB pin to 0.790V. Connect the feedback resistor divider tap to this pin.", 9 VC "The VC pin is the output of the internal error amplifier. The voltage on this pin controls the peak switch current. Tie an RC network from this pin to ground to compensate the control loop.", 10 RT "Oscillator Resistor Input. Connecting a resistor to ground from this pin sets the switching frequency.", 11 EP (power) "Ground. The exposed pad must be soldered to PCB."

## LT3480HMSE#TRPBF
designator U?
2 A, 2.4 MHz Step-Down Switching Regulator with 70 uA Quiescent Current, 10-pin SOP (MSE-10-EDP), -40 to 150 degC, Pb-Free, Tape and Reel; Manufacturer: Linear Technology; PartNumber: LT3480HMSE#TRPBF; Number of Outputs: 1; Over Voltage Protection(V): 60; PackageVersion: Rev. I, 05/2013; PackageReference: MSE-10; PackageDescription: 10-Pin Plastic MSOP, Exposed Die Pad, Body 3 x 3 mm, Pitch 0.5 mm; Supplier 1: Digi-Key; Supplier Part Number 1: LT3480HMSE#TRPBF-ND; Packing: Tape and Reel; RoHS: TRUE; Mounting Technology: Surface Mount; ComponentLink1Description: Manufacturer URL; ComponentLink1URL: http://www.linear.com/; ComponentLink2Description: Datasheet; ComponentLink2URL: http://cds.linear.com/docs/en/datasheet/3480fe.pdf; ComponentLink3Description: Package Specification; ComponentLink3URL: http://cds.linear.com/docs/en/packaging/05081664_I_MSE.pdf
footprint LT-MSE-10-EDP_N (SOP, 10-Leads, Body 3.1x3.1mm, Pitch 0.5mm, Thermal Pad 1.88x1.68mm, IPC Medium Density)
footprint LT-MSE-10-EDP_L (SOP, 10-Leads, Body 3.1x3.1mm, Pitch 0.5mm, Thermal Pad 1.88x1.68mm, IPC High Density)
footprint LT-MSE-10-EDP_M (SOP, 10-Leads, Body 3.1x3.1mm, Pitch 0.5mm, Thermal Pad 1.88x1.68mm, IPC Low Density)
pins: 1 BD (power) "This pin connects to the anode of the boost Schottky diode. BD also supplies current to the internal regulator. BD must be locally bypassed when not tied to VOUT with a low ESR capacitor (1uF).", 2 BOOST "This pin is used to provide a drive voltage, higher than the input voltage, to the internal bipolar NPN power switch.", 3 SW (power) "The SW pin is the output of the internal power switch. Connect this pin to the inductor, catch diode and boost capacitor.", 4 VIN (power) "The VIN pin supplies current to the LT3480’s internal regulator and to the internal power switch. This pin must be locally bypassed.", 5 RUN/SS (in) "The RUN/SS pin is used to put the LT3480 in shutdown mode. Tie to ground to shut down the LT3480. Tie to 2.5V or more for normal operation. If the shutdown feature is not used, tie this pin to the VIN pin. RUN/SS also (See Datasheet)", 6 SYNC (in) "This is the external clock synchronization input. Ground this pin for low ripple Burst Mode operation at low output loads. Tie to a clock source for synchronization. Clock edges should have rise and fall times faster than (See Datasheet)", 7 PG (oc) "The PG pin is the open collector output of an internal comparator. PG remains low until the FB pin is within 14% of the final regulation voltage. PG output is valid when VIN is above 3.6V and RUN/SS is high.", 8 FB (in) "The LT3480 regulates the FB pin to 0.790V. Connect the feedback resistor divider tap to this pin.", 9 VC "The VC pin is the output of the internal error amplifier. The voltage on this pin controls the peak switch current. Tie an RC network from this pin to ground to compensate the control loop.", 10 RT "Oscillator Resistor Input. Connecting a resistor to ground from this pin sets the switching frequency.", 11 EP (power) "Ground. The exposed pad must be soldered to PCB."

## LT3480IDD#PBF
designator U?
2 A, 2.4 MHz Step-Down Switching Regulator with 70 uA Quiescent Current, 10-pin SON (DD-10), -40 to 125 degC, Pb-Free; Manufacturer: Linear Technology; PartNumber: LT3480IDD#PBF; Number of Outputs: 1; Over Voltage Protection(V): 60; PackageVersion: Rev. C, 06/2010; PackageReference: DD-10; PackageDescription: 10-Pin Plastic DFN, Body 3 x 3 mm, Pitch 0.5 mm; Supplier 1: Digi-Key; Supplier Part Number 1: LT3480IDD#PBF-ND; Supplier 2: Farnell; Supplier Part Number 2: 2294909; Supplier 3: Newark; Supplier Part Number 3: 57M8345; RoHS: TRUE; Mounting Technology: Surface Mount; Code_JEDEC: MO-229; ComponentLink1Description: Manufacturer URL; ComponentLink1URL: http://www.linear.com/; ComponentLink2Description: Datasheet; ComponentLink2URL: http://cds.linear.com/docs/en/datasheet/3480fe.pdf; ComponentLink3Description: Package Specification; ComponentLink3URL: http://cds.linear.com/docs/en/packaging/DFN_10_05-08-1699.pdf
footprint LT-DD-10_V (SON, 10-Leads, Body 3x3mm, Pitch 0.5mm, Thermal Pad 2.38x1.65mm)
pins: 1 BD (power) "This pin connects to the anode of the boost Schottky diode. BD also supplies current to the internal regulator.", 2 BOOST "This pin is used to provide a drive voltage, higher than the input voltage, to the internal bipolar NPN power switch.", 3 SW (power) "The SW pin is the output of the internal power switch. Connect this pin to the inductor, catch diode and boost capacitor.", 4 VIN (power) "The VIN pin supplies current to internal regulator and to the internal power switch. This pin must be locally bypassed.", 5 RUN/SS (in) "If the shutdown feature is not used, tie this pin to the VIN pin. RUN/SS also provides a soft-start function; see the Applications Information section.", 6 SYNC (in) "This is the external clock synchronization input. Ground this pin for low ripple Burst Mode operation at low output loads. Tie to a clock source for synchronization. Clock edges should have rise and fall times faster than (See Datasheet)", 7 PG (oc) "The PG pin is the open collector output of an internal comparator. PG remains low until the FB pin is within 9% of the final regulation voltage. PG output is valid when VIN is above 3.6V and RUN/SS is high.", 8 FB (in) "Connect the feedback resistor divider tap to this pin.", 9 VC "The VC pin is the output of the internal error amplifier. The voltage on this pin controls the peak switch current. Tie an RC network from this pin to ground to compensate the control loop.", 10 RT "Oscillator Resistor Input. Connecting a resistor to ground from this pin sets the switching frequency.", 11 EP (power) "Ground. The Exposed Pad must be soldered to PCB."